# Altium footprint library Audio-Module-PCB-LIB.PcbLib: 23 footprints (part 1 of 2)
Each footprint in its own frame and in the unit in brackets; x right, y up, seen from the top. Pads: shape width x height; smd on the part's side, far side on the other; paste and mask are expansions set on the pad; w line width, h text height; cw(c..) or ccw(c..) is an arc to the next point about the centre after c.
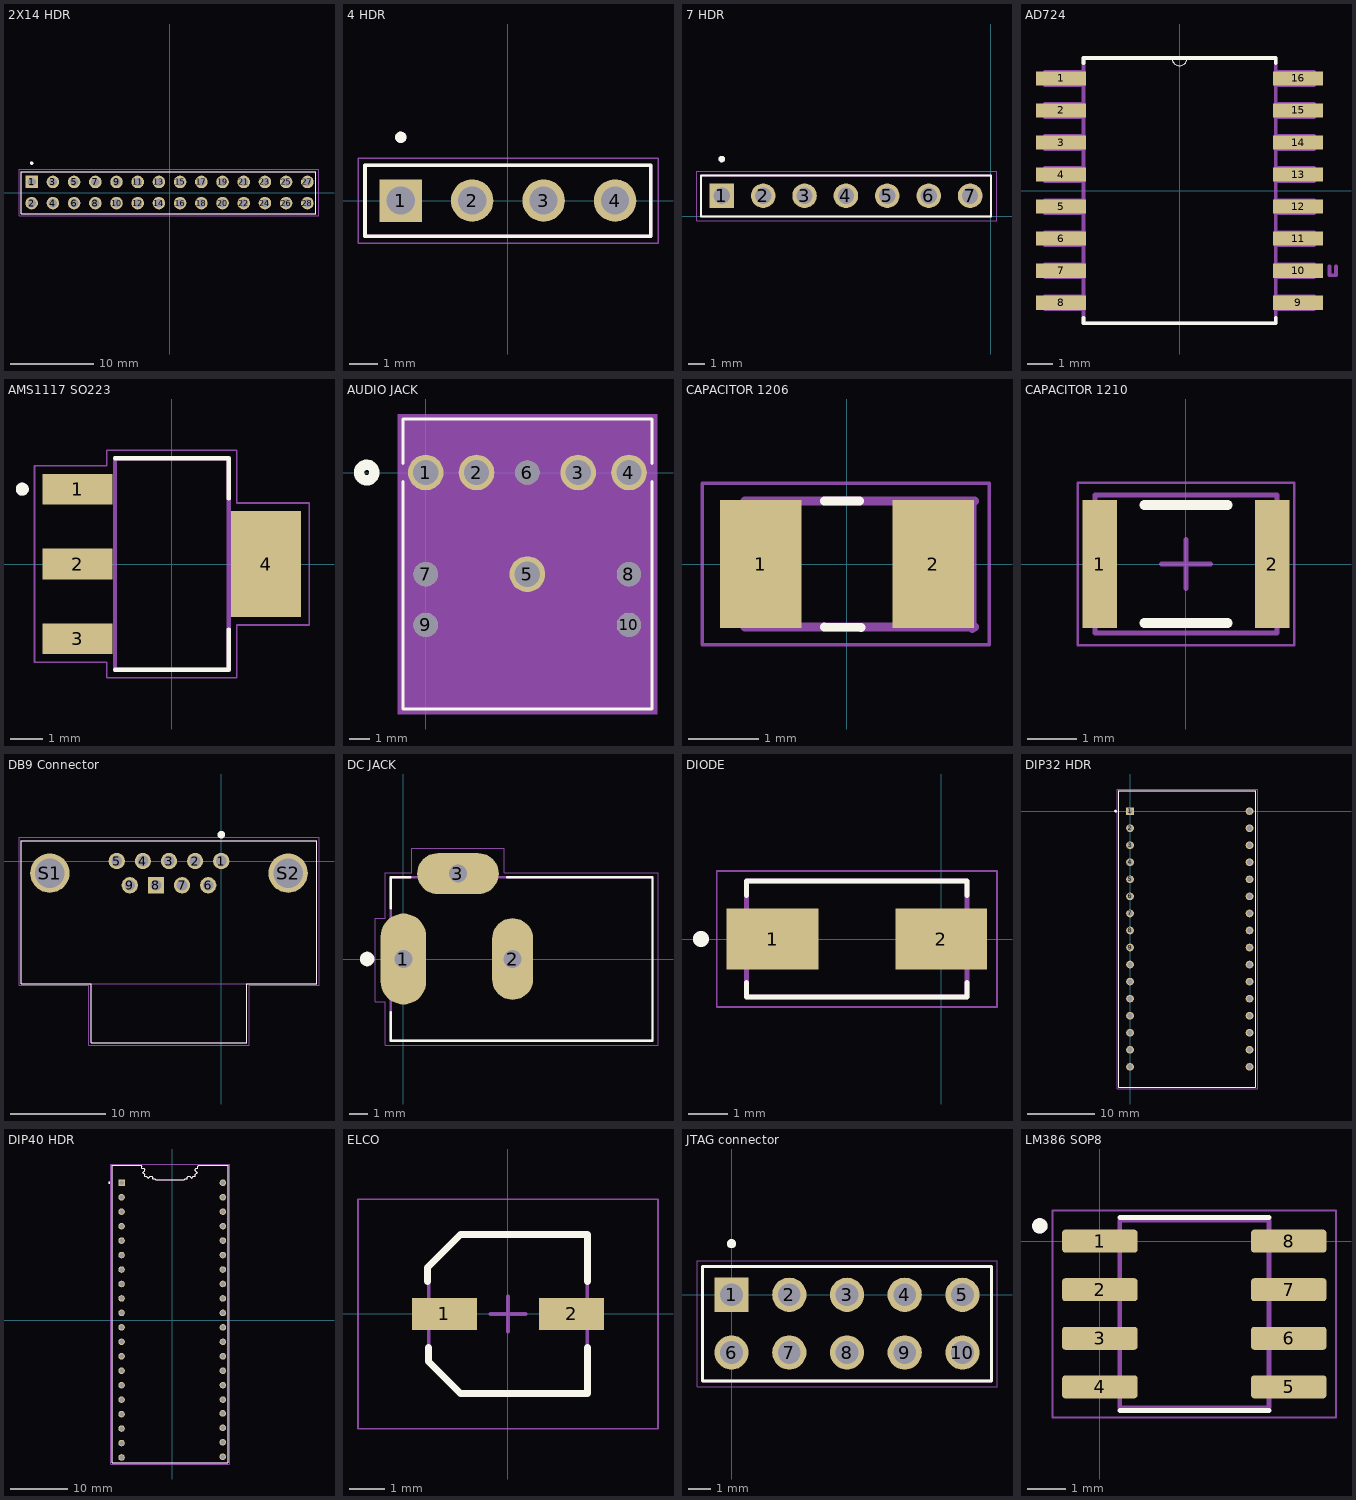
[diagram p0: the footprints below, top view; thin cyan lines are the x and y axes]

## 2X14 HDR [mm] "2x14 pin header"
pads (28):
  rect 1.508x1.508 hole 1: 1(-16.51,1.27)
  round 1.508 hole 1: 2(-16.51,-1.27) 3(-13.97,1.27) 4(-13.97,-1.27) 5(-11.43,1.27) 6(-11.43,-1.27) 7(-8.89,1.27) 8(-8.89,-1.27) 9(-6.35,1.27) 10(-6.35,-1.27) 11(-3.81,1.27) 12(-3.81,-1.27) 13(-1.27,1.27) 14(-1.27,-1.27) 15(1.27,1.27) 16(1.27,-1.27) 17(3.81,1.27) 18(3.81,-1.27) 19(6.35,1.27) 20(6.35,-1.27) 21(8.89,1.27) 22(8.89,-1.27) 23(11.43,1.27) 24(11.43,-1.27) 25(13.97,1.27) 26(13.97,-1.27) 27(16.51,1.27) 28(16.51,-1.27)
Top Overlay:
  circle w0.2: c-16.51,3.52 r0.1
  lines w0.127: -17.78,-2.52 -17.78,2.52 17.526,2.52 17.526,-2.52 -17.78,-2.52
Mechanical 13:
  circle w0.2: c-16.51,3.52 r0.1
  lines w0.127: -17.78,-2.52 -17.78,2.52 17.526,2.52 17.526,-2.52 -17.78,-2.52
Mechanical 15:
  lines w0.05: -18.03,-2.77 -18.03,2.77 17.907,2.77 17.907,-2.77 -18.03,-2.77

## 4 HDR [mm] "1x4 pin header"
pads (4):
  rect 1.508x1.508 hole 1: 1(-3.81,0)
  round 1.508 hole 1: 2(-1.27,0) 3(1.27,0) 4(3.81,0)
Top Overlay:
  circle w0.2: c-3.81,2.25 r0.1
  lines w0.127: -5.08,-1.27 -5.08,1.25 5.08,1.25 5.08,-1.27 -5.08,-1.27
Mechanical 13:
  circle w0.2: c-3.81,2.25 r0.1
  lines w0.127: -5.08,-1.27 -5.08,1.25 5.08,1.25 5.08,-1.27 -5.08,-1.27
Mechanical 15:
  lines w0.05: -5.33,-1.524 -5.33,1.5 5.334,1.5 5.334,-1.524 -5.33,-1.524

## 7 HDR [mm] "1x7 pin header"
pads (7):
  rect 1.508x1.508 hole 1: 1(-16.51,1.27)
  round 1.508 hole 1: 2(-13.97,1.27) 3(-11.43,1.27) 4(-8.89,1.27) 5(-6.35,1.27) 6(-3.81,1.27) 7(-1.27,1.27)
Top Overlay:
  circle w0.2: c-16.51,3.52 r0.1
  lines w0.127: -17.78,0 -17.78,2.52 0,2.52 0,0 -17.78,0
Mechanical 13:
  circle w0.2: c-16.51,3.52 r0.1
  lines w0.127: -17.78,0 -17.78,2.52 0,2.52 0,0 -17.78,0
Mechanical 15:
  lines w0.05: -18.03,-0.254 -18.03,2.77 0.381,2.77 0.381,-0.254 -18.03,-0.254

## AD724 [mil] "AD724 SOP16"
pads (16):
  rect 78x22 smd: 1(-185,175) 2(-185,125) 3(-185,75) 4(-185,25) 5(-185,-25) 6(-185,-75) 7(-185,-125) 8(-185,-175) 9(185,-175) 10(185,-125) 11(185,-75) 12(185,-25) 13(185,25) 14(185,75) 15(185,125) 16(185,175)
Top Overlay:
  lines w0: -12,207 ccw(c0,207) 12,207
  lines w6: -150,-199 -150,-207 150,-207 150,-199 ; -150,199 -150,207 -12,207 12,207 150,207 150,199
Mechanical 13:
  lines w0: -12,207 ccw(c0,207) 12,207
  lines w6: 234,-118 234,-132 244,-132 244,-118 ; -210,-185 -210,-165 -150,-165 -150,-185 -210,-185 ; -210,-135 -210,-115 -150,-115 -150,-135 -210,-135 ; -210,-85 -210,-65 -150,-65 -150,-85 -210,-85 ; -210,-35 -210,-15 -150,-15 -150,-35 -210,-35 ; -210,15 -210,35 -150,35 -150,15 -210,15 ; -210,65 -210,85 -150,85 -150,65 -210,65 ; -210,115 -210,135 -150,135 -150,115 -210,115 ; -210,165 -210,185 -150,185 -150,165 -210,165 ; -150,-207 150,-207 150,207 12,207 -12,207 -150,207 -150,-207 ; 150,-185 150,-165 210,-165 210,-185 150,-185 ; 150,-135 150,-115 210,-115 210,-135 150,-135 ; 150,-85 150,-65 210,-65 210,-85 150,-85 ; 150,-35 150,-15 210,-15 210,-35 150,-35 ; 150,15 150,35 210,35 210,15 150,15 ; 150,65 150,85 210,85 210,65 150,65 ; 150,115 150,135 210,135 210,115 150,115 ; 150,165 150,185 210,185 210,165 150,165
  text "*" at -217.21,192.19 h50.05
3D body "step_temp.STEP": height 103.26, standoff -1.07, extent -208.25,-202.76 198.25,202.76

## AMS1117 SO223 [mm] "AMS1117 SO223 package"
pads (4):
  rect 2.15x0.95 smd: 1(-2.9,2.3) 2(-2.9,0) 3(-2.9,-2.3)
  rect 2.15x3.25 smd: 4(2.9,0)
Top Overlay:
  circle w0.2: c-4.6,2.3 r0.1
  lines w0.127: -1.75,-3.25 1.75,-3.25 1.75,-2.01 ; -1.75,3.25 1.75,3.25 1.75,2.01
Mechanical 13:
  circle w0.2: c-4.6,2.3 r0.1
  lines w0.127: -1.75,-3.25 -1.75,3.25 1.75,3.25 1.75,-3.25 -1.75,-3.25
Mechanical 15:
  lines w0.05: -4.225,-3.025 -4.225,3.025 -2,3.025 -2,3.5 2,3.5 2,1.875 4.225,1.875 4.225,-1.875 2,-1.875 2,-3.5 -2,-3.5 -2,-3.025 -4.225,-3.025
3D body "NOPB.STEP": height 1.8, standoff 0, extent -3.499,-3.25 3.499,3.25

## AUDIO JACK [mil] "3.5mm audio jack"
pads (10):
  round 69 hole 49: 1(0,0) 2(98.43,0) 3(295.28,0) 4(393.7,0) 5(196.85,-196.85)
  round 47 hole 47 unplated mask+0: 6(196.85,0)
  round 47 hole 47 unplated: 7(0,-196.85) 8(393.7,-196.85) 9(0,-295.28) 10(393.7,-295.28)
Top Overlay:
  circle w20: c-114.37,0 r15
  lines w6: -44.37,-17.24 -44.37,-457.76 438.07,-457.76 438.07,-17.24 ; -44.37,17.24 -44.37,103.43 438.07,103.43 438.07,17.24
Bottom Overlay:
  circle w20: c-114.37,0 r15
Mechanical 5:
  region: -54.37,113.43 448.07,113.43 448.07,-467.76 -54.37,-467.76
Mechanical 13:
  circle w20: c0,75 r15
  lines w1: -39.37,-452.76 -39.37,98.43 433.07,98.43 433.07,-452.76 -39.37,-452.76
Mechanical 15:
  region: 443.07,108.43 -49.37,108.43 -49.37,-462.76 443.07,-462.76
  lines w6: -49.37,-462.76 443.07,-462.76 443.07,108.43 -49.37,108.43 -49.37,-462.76
3D body: height 10, standoff 0, extent 0,0 10,10
3D body "CUI_DEVICES_SJ1-3525NG-GR.step": height 236.22, standoff -110.24, extent -42.44,-456.57 430,96.57

## CAPACITOR 1206 [mm] "100nF & 4.7pF"
pads (2):
  rect 1.16x1.82 smd: 1(-1.23,0) 2(1.23,0)
Top Overlay:
  lines w0.127: -0.325,-0.9 0.198,-0.903 ; -0.325,0.9 0.181,0.899
Mechanical 13:
  lines w0.127: 1.786,-0.92 1.786,-0.47 1.786,0.43 1.786,0.88 ; 1.818,-0.9 -1.455,-0.9 -1.455,0.9 1.818,0.9
Mechanical 15:
  lines w0.05: -2.063,-1.15 2.028,-1.15 2.028,1.15 -2.063,1.15 -2.063,-1.15
3D body "step_temp.STEP": height 0.85, standoff 0, extent -1.727,-0.8 1.473,0.8

## CAPACITOR 1210 [mm] "1210 SMD capacitor - 22µF"
height 3.3
pads (2):
  rect 0.7x2.6 smd: 1(-1.75,0) 2(1.75,0)
Top Overlay:
  lines w0.2: -0.85,-1.2 0.85,-1.2 ; -0.85,1.2 0.85,1.2
Mechanical 13:
  lines w0.1: -1.85,-1.4 1.85,-1.4 1.85,1.4 -1.85,1.4 -1.85,-1.4
Mechanical 15:
  lines w0.05: -2.2,-1.65 2.2,-1.65 2.2,1.65 -2.2,1.65 -2.2,-1.65
  lines w0.1: -0.5,0 0.5,0 ; 0,-0.5 0,0.5
3D body: height 0.25, standoff 0, extent -1.85,-1.4 1.85,1.4

## DB9 Connector [mm] "DB9 Sega joystick connector"
pads (11):
  round 1.708 hole 1.14: 1(0,0) 2(-2.74,0) 3(-5.48,0) 4(-8.22,0) 5(-10.96,0) 6(-1.37,-2.54) 7(-4.11,-2.54) 9(-9.59,-2.54)
  rect 1.708x1.708 hole 1.14: 8(-6.85,-2.54)
  round 4.116 hole 3.1: S1(-17.98,-1.27) S2(7.02,-1.27)
Top Overlay:
  circle w0.4: c0.009,2.77 r0.2
  lines w0.127: -20.96,-12.87 -13.63,-12.87 -13.63,-19.07 2.67,-19.07 2.67,-12.87 10,-12.87 10,2.13 -20.96,2.13 -20.96,-12.87
Mechanical 13:
  lines w0.127: -13.63,-12.87 2.67,-12.87 ; -13.63,-12.87 -20.96,-12.87 -20.96,2.13 10,2.13 10,-12.87 2.67,-12.87 ; -13.63,-12.87 -13.63,-19.07 2.67,-19.07 2.67,-12.87
Mechanical 15:
  lines w0.05: -21.21,-13.05 -21.21,2.48 10.25,2.48 10.25,-13.05 2.92,-13.05 2.92,-19.32 -13.88,-19.32 -13.88,-13.05 -21.21,-13.05
3D body "3-106505-2.stp": height 13.85, standoff -3.1, extent -20.93,-19.159 10.16,2.141

## DC JACK [mm] "DC power jack connector"
pads (3):
  oval 2.5x5 hole 1 square: 1(0,0)
  oval 2.25x4.5 hole 1 square: 2(6,0)
  oval 4.5x2.25 hole 1 square: 3(3,4.7)
Top Overlay:
  circle w0.4: c-2,0 r0.2
  lines w0.127: -0.7,-2.921 -0.7,-4.5 13.7,-4.5 13.7,4.5 5.715,4.5 ; -0.7,2.794 -0.7,4.5 0.381,4.5
Mechanical 13:
  lines w0.127: -0.7,-4.5 -0.7,4.5 13.7,4.5 13.7,-4.5 -0.7,-4.5
Mechanical 15:
  lines w0.05: -1.55,-2.35 -1,-2.35 -1,-4.75 14,-4.75 14,4.75 5.55,4.75 5.55,6.1 0.45,6.1 0.45,4.75 -1,4.75 -1,2.25 -1.55,2.25 -1.55,-2.35
3D body "PJ-002A--3DModel-STEP-56544.STEP": height 11, standoff -3.5, extent -0.723,-4.574 13.677,4.826

## DIODE [mm] "SMD DIODE"
height 2.7
pads (2):
  rect 2.33x1.56 smd: 1(-4.28,0) 2(0,0)
Top Overlay:
  circle w0.2: c-6.096,0 r0.1
  lines w0.127: -4.94,-1.1 -4.94,-1.475 0.66,-1.475 0.66,-1.1 ; -4.94,1.1 -4.94,1.475 0.66,1.475 0.66,1.1
Mechanical 13:
  circle w0.2: c-6.096,0 r0.1
  lines w0.127: -4.94,-1.475 0.66,-1.475 0.66,1.475 -4.94,1.475 -4.94,-1.475
Mechanical 15:
  lines w0.05: -5.695,-1.725 -5.695,1.725 1.415,1.725 1.415,-1.725 -5.695,-1.725
3D body "step_temp.STEP": height 2.19, standoff 0.02, extent -4.538,-1.303 0.512,1.397

## DIP32 HDR [mm]
pads (32):
  rect 1.15x1.15 / inner round 1.15 / far side rect 1.15x1.15 hole 0.8: 1(0,0)
  round 1.15 hole 0.8: 2(0,-2.54) 3(0,-5.08) 4(0,-7.62) 5(0,-10.16) 6(0,-12.7) 7(0,-15.24) 8(0,-17.78) 9(0,-20.32) 10(0,-22.86) 11(0,-25.4) 12(0,-27.94) 13(0,-30.48) 14(0,-33.02) 15(0,-35.56) 16(0,-38.1) 17(17.8,-38.1) 18(17.8,-35.56) 19(17.8,-33.02) 20(17.8,-30.48) 21(17.8,-27.94) 22(17.8,-25.4) 23(17.8,-22.86) 24(17.8,-20.32) 25(17.8,-17.78) 26(17.8,-15.24) 27(17.8,-12.7) 28(17.8,-10.16) 29(17.8,-7.62) 30(17.8,-5.08) 31(17.8,-2.54) 32(17.8,0)
Top Overlay:
  circle w0.2: c-2.153,0 r0.1
  lines w0.127: -1.652,-41.15 -1.652,3.05 18.669,3.05 18.669,-41.15 -1.652,-41.15
Mechanical 13:
  circle w0.2: c-2.153,0 r0.1
  lines w0.127: -1.652,-41.148 18.669,-41.148 18.669,3.05 -1.652,3.05 -1.652,-41.148
Mechanical 15:
  lines w0.05: -1.903,-41.4 18.923,-41.4 18.923,3.3 -1.903,3.3 -1.903,-41.4

## DIP40 HDR [mm] "ATMega DIP40 socket"
pads (40):
  rect 1.15x1.15 / inner round 1.15 / far side rect 1.15x1.15 hole 0.8: 1(-8.9,24.13)
  round 1.15 hole 0.8: 2(-8.9,21.59) 3(-8.9,19.05) 4(-8.9,16.51) 5(-8.9,13.97) 6(-8.9,11.43) 7(-8.9,8.89) 8(-8.9,6.35) 9(-8.9,3.81) 10(-8.9,1.27) 11(-8.9,-1.27) 12(-8.9,-3.81) 13(-8.9,-6.35) 14(-8.9,-8.89) 15(-8.9,-11.43) 16(-8.9,-13.97) 17(-8.9,-16.51) 18(-8.9,-19.05) 19(-8.9,-21.59) 20(-8.9,-24.13) 21(8.88,-24.003) 22(8.88,-21.463) 23(8.88,-18.923) 24(8.88,-16.383) 25(8.9,-13.97) 26(8.9,-11.43) 27(8.9,-8.89) 28(8.9,-6.35) 29(8.9,-3.81) 30(8.9,-1.27) 31(8.9,1.27) 32(8.9,3.81) 33(8.9,6.35) 34(8.9,8.89) 35(8.9,11.43) 36(8.9,13.97) 37(8.9,16.51) 38(8.9,19.05) 39(8.9,21.59) 40(8.9,24.13)
Top Overlay:
  circle w0.2: c-11.053,24.13 r0.1
  lines w0.127: -10.552,-25.019 -10.552,27.18 -5.472,27.18 -5.313,27.021 -5.313,26.703 -4.995,26.703 -4.837,26.544 -4.837,26.227 -5.154,25.909 -4.837,25.591 -4.837,25.274 -4.519,25.274 -4.201,24.956 -3.883,25.274 -3.566,25.274 -3.407,25.115 -3.407,24.797 -3.089,24.797 -2.93,24.638 2.147,24.638 2.305,24.797 2.623,24.797 2.623,25.115 2.782,25.274 3.1,25.274 3.418,24.956 3.735,25.274 4.053,25.274 4.053,25.591 4.371,25.909 4.053,26.227 4.053,26.544 4.212,26.703 4.53,26.703 4.53,27.021 4.689,27.18 9.769,27.18 9.769,-25.019 -10.552,-25.019
Mechanical 13:
  circle w0.2: c-11.053,24.13 r0.1
  lines w0.127: -10.552,-25.019 -10.552,27.18 -5.472,27.18 -5.313,27.021 -5.313,26.703 -4.995,26.703 -4.837,26.544 -4.837,26.227 -5.154,25.909 -4.837,25.591 -4.837,25.274 -4.519,25.274 -4.201,24.956 -3.883,25.274 -3.566,25.274 -3.407,25.115 -3.407,24.797 -3.089,24.797 -2.93,24.638 2.147,24.638 2.305,24.797 2.623,24.797 2.623,25.115 2.782,25.274 3.1,25.274 3.418,24.956 3.735,25.274 4.053,25.274 4.053,25.591 4.371,25.909 4.053,26.227 4.053,26.544 4.212,26.703 4.53,26.703 4.53,27.021 4.689,27.18 9.769,27.18 9.769,-25.019 -10.552,-25.019
Mechanical 15:
  lines w0.05: -10.803,-25.273 -10.803,27.43 10.023,27.43 10.023,-25.273 -10.803,-25.273

## ELCO [mm] "ELCO CAP"
height 6.1
pads (2):
  rect 1.85x0.9 smd: 1(-1.8,0) 2(1.8,0)
Top Overlay:
  lines w0.2: -2.28,0.921 -2.28,1.321 ; -2.25,-0.95 -2.25,-1.35 -1.35,-2.25 2.25,-2.25 2.25,-0.95 ; -2.25,1.35 -1.35,2.25 2.25,2.25 ; 2.257,0.926 2.257,2.226
Mechanical 13:
  lines w0.1: -2.25,-1.35 -1.35,-2.25 2.25,-2.25 2.25,2.25 -1.35,2.25 -2.25,1.35 -2.25,-1.35
Mechanical 15:
  lines w0.05: -4.25,-3.25 -4.25,3.25 4.25,3.25 4.25,-3.25 -4.25,-3.25
  lines w0.1: -0.5,0 0.5,0 ; 0,-0.5 0,0.5
3D body "ELCO.step": height 6.1, standoff 0, extent -2.425,-2.25 2.425,2.25

## JTAG connector [mm]
pads (10):
  rect 1.508x1.508 hole 1: 1(0,0)
  round 1.508 hole 1: 2(2.54,0) 3(5.08,0) 4(7.62,0) 5(10.16,0) 6(0,-2.54) 7(2.54,-2.54) 8(5.08,-2.54) 9(7.62,-2.54) 10(10.16,-2.54)
Top Overlay:
  circle w0.2: c0,2.25 r0.1
  lines w0.127: -1.27,-3.79 11.43,-3.79 11.43,1.25 -1.27,1.25 -1.27,-3.79
Mechanical 13:
  circle w0.2: c0,2.25 r0.1
  lines w0.127: -1.27,-3.79 11.43,-3.79 11.43,1.25 -1.27,1.25 -1.27,-3.79
Mechanical 15:
  lines w0.05: -1.52,-4.04 11.68,-4.04 11.68,1.5 -1.52,1.5 -1.52,-4.04

## LM386 SOP8 [mm] "LM368 SOP8 package"
pads (8):
  rrect25% 1.97x0.6 smd: 1(0,0) 2(0,-1.27) 3(0,-2.54) 4(0,-3.81) 5(4.94,-3.81) 6(4.94,-2.54) 7(4.94,-1.27) 8(4.94,0)
Top Overlay:
  circle w0.2: c-1.57,0.4 r0.1
  lines w0.127: 0.52,-4.43 4.42,-4.43 ; 0.52,0.62 4.42,0.62
Mechanical 13:
  circle w0.2: c-1.57,0.4 r0.1
  lines w0.127: 0.52,-4.357 0.52,0.547 4.42,0.547 4.42,-4.357 0.52,-4.357
Mechanical 15:
  lines w0.05: -1.235,-4.607 -1.235,0.797 6.175,0.797 6.175,-4.607 -1.235,-4.607
3D body "LM386.STEP": height 1.75, standoff 0, extent -0.457,-4.356 5.537,0.546